# EAGLE library part MAX14939 (library graftel-internal-ic)
https://www.digikey.com/product-detail/en/maxim-integrated/MAX14939GWE-/MAX14939GWE--ND/5880611
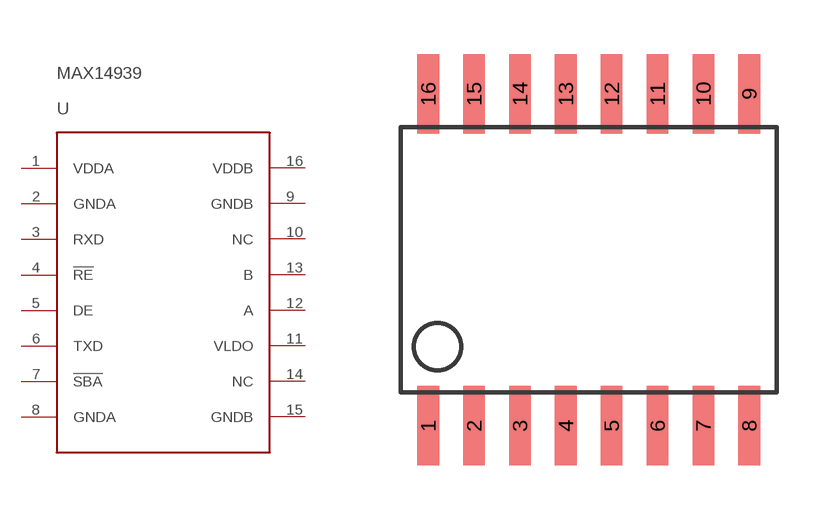
[diagram p41: symbol with the pads of SO16W; footprint SO16W]

Designator prefix U

## MAX14939  [SO16W]
1  VDDA
2  GNDA
3  RXD
4  !RE
5  DE
6  TXD
7  !SBA
8  GNDA
9  GNDB
10  NC
11  VLDO
12  A
13  B
14  NC
15  GNDB
16  VDDB

## Footprint SO16W (pad centres in mm)
SMALL OUTLINE INTEGRATED CIRCUIT wide body 7.5 mm/JEDEC MS-013AA
smd 0.6 x 2.2: 1 -4.445,-4.6; 2 -3.175,-4.6; 3 -1.905,-4.6; 4 -0.635,-4.6; 5 0.635,-4.6; 6 1.905,-4.6; 7 3.175,-4.6; 8 4.445,-4.6; 9 4.445,4.6; 10 3.175,4.6; 11 1.905,4.6; 12 0.635,4.6; 13 -0.635,4.6; 14 -1.905,4.6; 15 -3.175,4.6; 16 -4.445,4.6